# EAGLE library part USBLC6-2SC6 (library HyTechDevices)
Double data line ESD detection USBLC6-2SC6 Datasheet <https://www.st.com/content/ccc/resource/technical/document/datasheet/06/1d/48/9c/6c/20/4a/b2/CD00050750.pdf/files/CD00050750.pdf/jcr:content/translations/en.CD00050750.pdf>
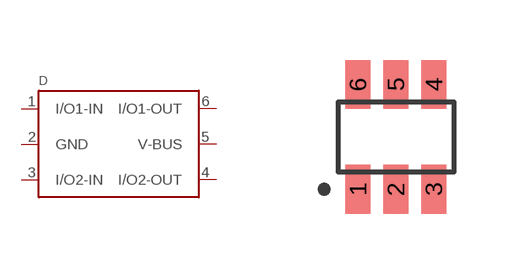
[diagram p88: symbol with the pads of SOT-23-6; footprint SOT-23-6]

Designator prefix D

## USBLC6-2SC6 (DKPN: 497-5235-1-ND; MANUFACTURER: STMicroelectronics; MOPN: 511-USBLC6-2SC6; MPN: USBLC6-2SC6)  [SOT-23-6]
1  I/O1-IN
2  GND  pwr
3  I/O2-IN
4  I/O2-OUT
5  V-BUS  pwr
6  I/O1-OUT

## Footprint SOT-23-6 (pad centres in mm)
6-Lead Plastic ThinSOT-23 Footprint Detailing <https://www.analog.com/media/en/package-pcb-resources/package/pkg_pdf/ltc-legacy-sot-23/SOT_6_05-08-1636.pdf>
smd 0.62 x 1.22: 1 -0.95,-1.31; 2 0,-1.31; 3 0.95,-1.31; 4 0.95,1.31; 5 0,1.31; 6 -0.95,1.31